# EAGLE library part 649006221732 (library Wurth_Elektronik_Electromechanic_Wire_to_Board_Connectors_rev15c)
WR-MPC4 4.20mm Male Dual Row Vertical Header with Mounting Pegs, 6 Pins=>Code : Con_WTB_MPC4_2_PCB_649006221732 <http://katalog.we-online.de/media/thumbs2/eican/thb_Con_WTB_MPC4_2_PCB_6490xx221732_pf2.jpg> Details see: http://katalog.we-online.de/en/em/649_0xx_221_732 Created 2014-06-06, Karrer Zheng 2014 (C) Würth Elektronik
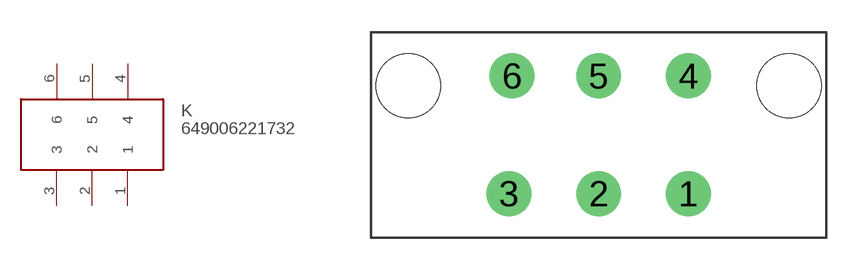
[diagram p277: symbol with the pads of 649006221732; footprint 649006221732]

Designator prefix K

## 649006221732  [649006221732]
1  1
2  2
3  3
4  4
5  5
6  6

## Footprint 649006221732 (pad centres in mm)
WR-MPC4 4.20mm Male Dual Row Vertical Header with Mounting Pegs, 6 Pins
drill 1.4: 1 0,-2.75; 2 -4.2,-2.75; 3 -8.4,-2.75; 4 0,2.75; 5 -4.2,2.75; 6 -8.255,2.75
hole 3 at -13.1,2.29
hole 3 at 4.7,2.29